# Altium integrated library Linear Technology Power Management Battery Management.IntLib: 626 symbols (part 46 of 56)
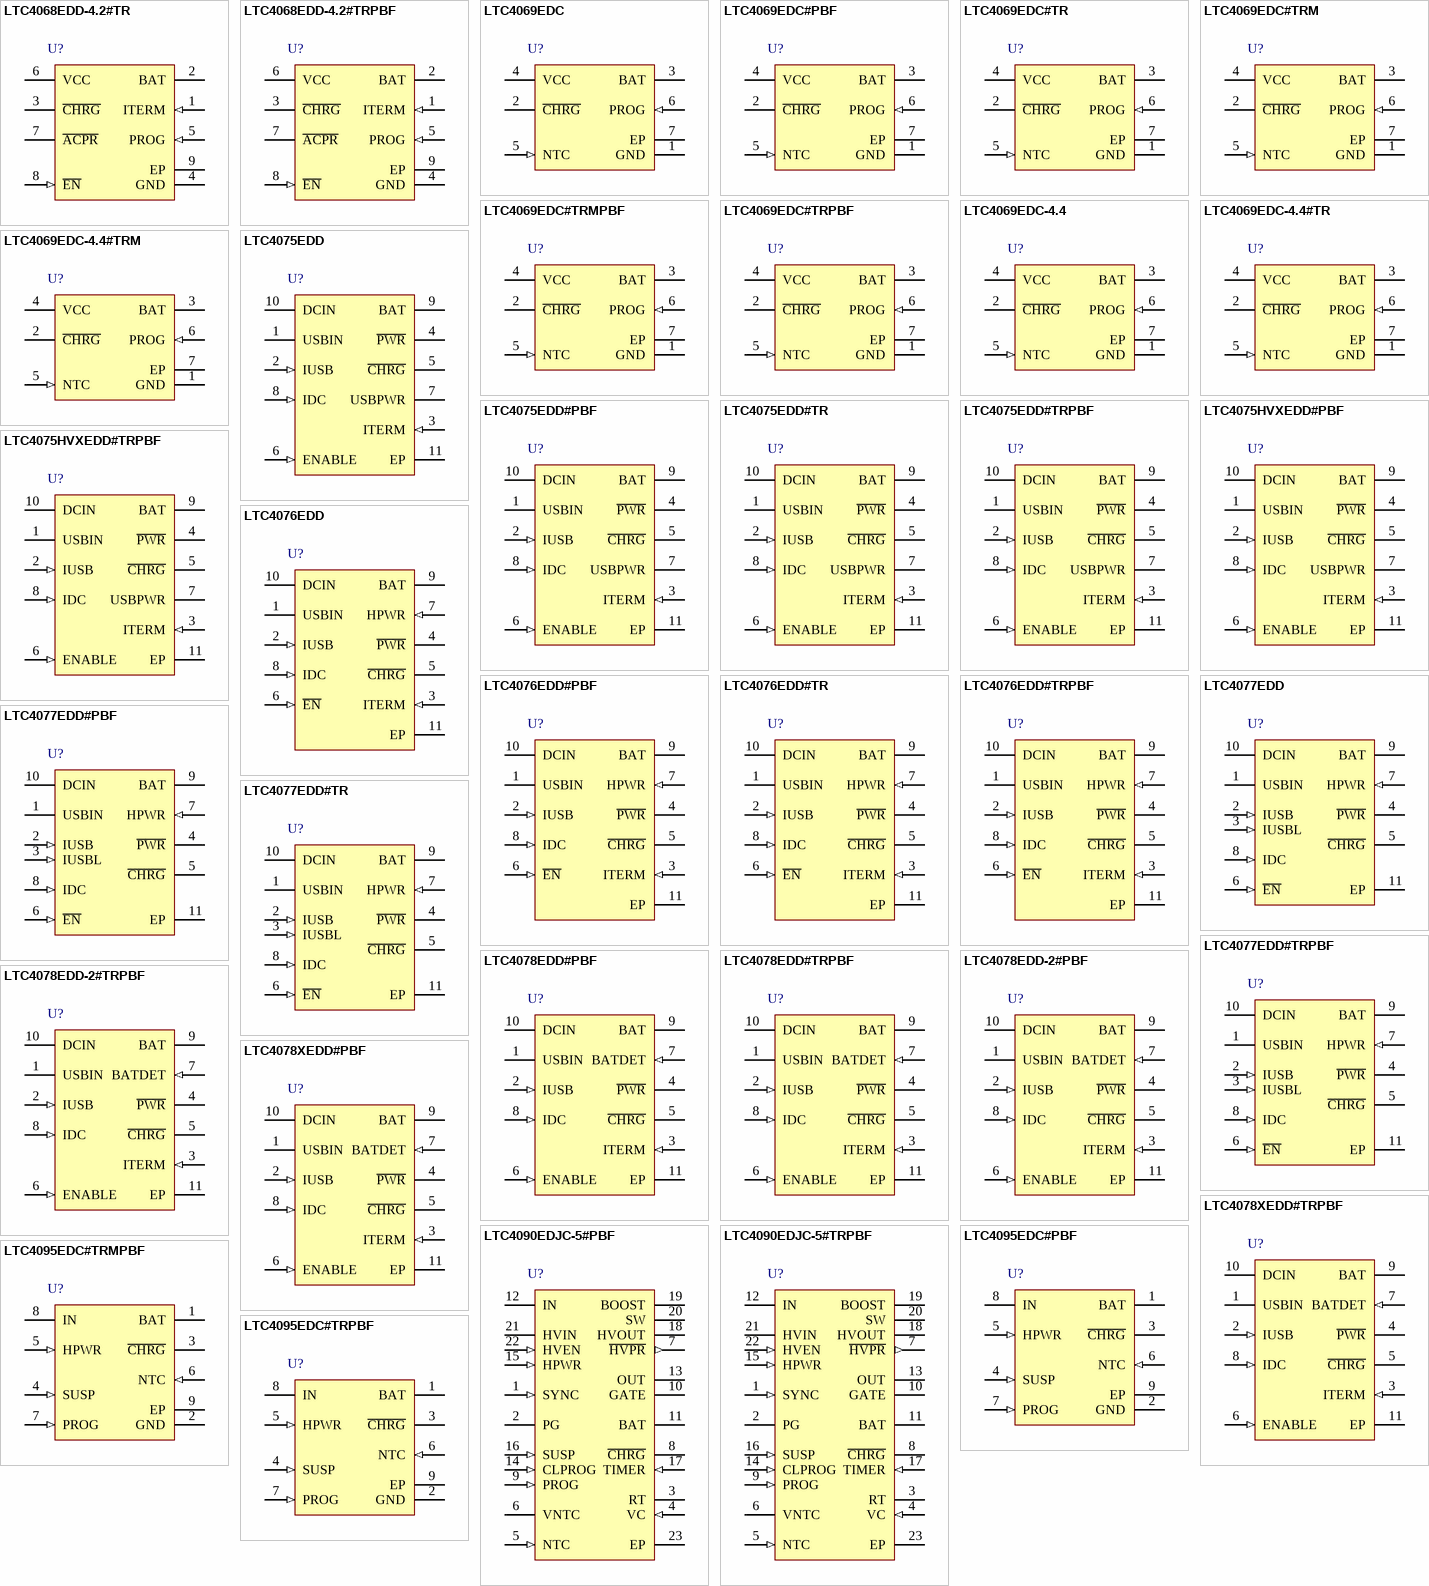
[diagram p67: symbols LTC4068EDD-4.2#TR to LTC4095EDC#TRPBF]

## LTC4076EDD#TRPBF
designator U?
Dual Input Standalone Battery Charger, 4.3 to 8 V Vin, 10-pin SON (DD-10), -40 to 85 degC, Pb-Free, Tape and Reel; Manufacturer: Linear Technology; PartNumber: LTC4076EDD#TRPBF; Battery Chemistry: Li-Ion, Li-Polymer; Charge Termination: C/X; Float Voltage: 4.2 V; Max Charge Current(A): 0.95; Number of Cells: 1; Type of Charger: Linear; Vin Max(V): 8; Vin Min(V): 4.3; DatasheetVersion: Rev. A; PackageVersion: Rev. C, 06/2010; PackageReference: DD-10; PackageDescription: 10-Pin Plastic DFN, Body 3 x 3 mm, Pitch 0.5 mm; Supplier 1: Digi-Key; Supplier Part Number 1: LTC4076EDD#TRPBF-ND; Packing: Tape and Reel; RoHS: TRUE; Mounting Technology: Surface Mount; Code_JEDEC: MO-229; ComponentLink1Description: Manufacturer URL; ComponentLink1URL: http://www.linear.com/; ComponentLink2Description: Datasheet; ComponentLink2URL: http://cds.linear.com/docs/en/datasheet/4076fa.pdf; ComponentLink3Description: Package Specification; ComponentLink3URL: http://cds.linear.com/docs/en/packaging/DFN_10_05-08-1699.pdf
footprint LT-DD-10_V (SON, 10-Leads, Body 3x3mm, Pitch 0.5mm, Thermal Pad 2.38x1.65mm)
pins: 1 USBIN (power) "USB Input Supply Pin. Provides power to the battery charger. The maximum supply current is 650mA. This pin should be bypassed with a 1uF capacitor.", 2 IUSB (in) "Charge Current Program for USB Power. The charge current is set by connecting a resistor, RIUSB, to ground. When charging in constant-current mode, this pin servos to 1V.", 3 ITERM (in) "Termination Current Threshold Program. The termination current threshold, ITERMINATE, is set by connecting a resistor, RITERM, to ground. ITERMINATE is set by the following formula: ITERMINATE = 100V/RITERM When the battery (See Datasheet)", 4 ~{PWR} (hiz) "Open-Drain Power Supply Status Output. When the DCIN or USBIN pin voltage is sufficient to begin charging (i.e. when the supply is greater than the undervoltage lockout threshold and at least 180mV above the battery (See Datasheet)", 5 ~{CHRG} (hiz) "Open-Drain Charge Status Output. When the LTC4076 is charging, the C\H\R\G\ pin is pulled low by an internal N-channel MOSFET. When the charge cycle is completed, C\H\R\G\ becomes high impedance. This output is capable of (See Datasheet)", 6 ~{EN} (in) "Charge Enable Input. A logic low on this pin enables the charger. If left floating, an internal 2Mohm pulldown resistor defaults the LTC4076 to charge mode . Pull this pin high for shutdown.", 7 HPWR (in) "HPWR Enable Input. Used to control the amount of current drawn from the USB port. A logic high on the HPWR pin sets the charge current to 100% of the current programmed by the IUSB pin. A logic low on the HPWR pin sets the (See Datasheet)", 8 IDC (in) "Charge Current Program for Wall Adapter Power. The charge current is set by connecting a resistor, RIDC, to ground. When charging in constant-current mode, this pin servos to 1V.", 9 BAT (power) "Charger Output. This pin provides charge current to the battery and regulates the final float voltage to 4.2V.", 10 DCIN (power) "Wall Adapter Input Supply Pin. Provides power to the battery charger. The maximum supply current is 950mA. This should be bypassed with a 1uF capacitor.", 11 EP (power) "GND. The exposed backside of the package is ground and must be soldered to PC board ground for electrical connection and maximum heat transfer."

## LTC4077EDD
designator U?
Dual Input Standalone Battery Charger, 4.3 to 8 V Vin, 10-pin SON (DD-10), -40 to 85 degC; Manufacturer: Linear Technology; PartNumber: LTC4077EDD; Battery Chemistry: Li-Ion, Li-Polymer; Charge Termination: C/10; Float Voltage: 4.2 V; Max Charge Current(A): 0.95; Number of Cells: 1; Type of Charger: Linear; Vin Max(V): 8; Vin Min(V): 4.3; DatasheetVersion: Rev. A; PackageVersion: Rev. C, 06/2010; PackageReference: DD-10; PackageDescription: 10-Pin Plastic DFN, Body 3 x 3 mm, Pitch 0.5 mm; Supplier 1: Digi-Key; Supplier Part Number 1: LTC4077EDD-ND; RoHS: FALSE; Mounting Technology: Surface Mount; Code_JEDEC: MO-229; ComponentLink1Description: Manufacturer URL; ComponentLink1URL: http://www.linear.com/; ComponentLink2Description: Datasheet; ComponentLink2URL: http://cds.linear.com/docs/en/datasheet/4077fa.pdf; ComponentLink3Description: Package Specification; ComponentLink3URL: http://cds.linear.com/docs/en/packaging/DFN_10_05-08-1699.pdf
footprint LT-DD-10_V (SON, 10-Leads, Body 3x3mm, Pitch 0.5mm, Thermal Pad 2.38x1.65mm)
pins: 1 USBIN (power) "USB Input Supply Pin. Provides power to the battery charger. The maximum supply current is 650mA. This pin should be bypassed with a 1uF capacitor.", 2 IUSB (in) "Charge Current Program for High USB Power. The charge current is set by connecting a resistor, RIUSB, to ground. When charging in constant-current mode, this pin servos to 1V.", 3 IUSBL (in) "Charge Current Program for Low USB Power. The charge current is set by connecting a resistor, RIUSBL, to ground. When charging in constant current mode, this pin servos to 0.2V.", 4 ~{PWR} (hiz) "Open-Drain Power Supply Status Output. When the DCIN or USBIN pin voltage is sufficient to begin charging (i.e. when the supply is greater than the undervoltage lockout threshold and at least 180mV above the battery (See Datasheet)", 5 ~{CHRG} (hiz) "Open-Drain Charge Status Output. When the LTC4077 is charging, the C\H\R\G\ pin is pulled low by an internal N-channel MOSFET. When the charge cycle is completed, C\H\R\G\ becomes high impedance. This output is capable of (See Datasheet)", 6 ~{EN} (in) "Charge Enable Input. A logic low on this pin enables the charger. If left floating, an internal 2Mohm pulldown resistor defaults the LTC4077 to charge mode . Pull this pin high for shutdown.", 7 HPWR (in) "HPWR Enable Input. Used to control the amount of current drawn from the USB port. A logic high on the HPWR pin sets the current limit at the current programmed by the IUSB pin. A logic low on the HPWR pin sets the current (See Datasheet)", 8 IDC (in) "Charge Current Program for Wall Adapter Power. The charge current is set by connecting a resistor, RIDC, to ground. When charging in constant-current mode, this pin servos to 1V.", 9 BAT (power) "Charger Output. This pin provides charge current to the battery and regulates the final float voltage to 4.2V.", 10 DCIN (power) "Wall Adapter Input Supply Pin. Provides power to the battery charger. The maximum supply current is 950mA. This should be bypassed with a 1uF capacitor.", 11 EP (power) "GND. The exposed backside of the package is ground and must be soldered to PC board ground for electrical connection and maximum heat transfer."

## LTC4077EDD#PBF
designator U?
Dual Input Standalone Battery Charger, 4.3 to 8 V Vin, 10-pin SON (DD-10), -40 to 85 degC, Pb-Free; Manufacturer: Linear Technology; PartNumber: LTC4077EDD#PBF; Battery Chemistry: Li-Ion, Li-Polymer; Charge Termination: C/10; Float Voltage: 4.2 V; Max Charge Current(A): 0.95; Number of Cells: 1; Type of Charger: Linear; Vin Max(V): 8; Vin Min(V): 4.3; DatasheetVersion: Rev. A; PackageVersion: Rev. C, 06/2010; PackageReference: DD-10; PackageDescription: 10-Pin Plastic DFN, Body 3 x 3 mm, Pitch 0.5 mm; Supplier 1: Digi-Key; Supplier Part Number 1: LTC4077EDD#PBF-ND; Supplier 2: Farnell; Supplier Part Number 2: 1556271; Supplier 3: Newark; Supplier Part Number 3: 58M0938; RoHS: TRUE; Mounting Technology: Surface Mount; Code_JEDEC: MO-229; ComponentLink1Description: Manufacturer URL; ComponentLink1URL: http://www.linear.com/; ComponentLink2Description: Datasheet; ComponentLink2URL: http://cds.linear.com/docs/en/datasheet/4077fa.pdf; ComponentLink3Description: Package Specification; ComponentLink3URL: http://cds.linear.com/docs/en/packaging/DFN_10_05-08-1699.pdf
footprint LT-DD-10_V (SON, 10-Leads, Body 3x3mm, Pitch 0.5mm, Thermal Pad 2.38x1.65mm)
pins: 1 USBIN (power) "USB Input Supply Pin. Provides power to the battery charger. The maximum supply current is 650mA. This pin should be bypassed with a 1uF capacitor.", 2 IUSB (in) "Charge Current Program for High USB Power. The charge current is set by connecting a resistor, RIUSB, to ground. When charging in constant-current mode, this pin servos to 1V.", 3 IUSBL (in) "Charge Current Program for Low USB Power. The charge current is set by connecting a resistor, RIUSBL, to ground. When charging in constant current mode, this pin servos to 0.2V.", 4 ~{PWR} (hiz) "Open-Drain Power Supply Status Output. When the DCIN or USBIN pin voltage is sufficient to begin charging (i.e. when the supply is greater than the undervoltage lockout threshold and at least 180mV above the battery (See Datasheet)", 5 ~{CHRG} (hiz) "Open-Drain Charge Status Output. When the LTC4077 is charging, the C\H\R\G\ pin is pulled low by an internal N-channel MOSFET. When the charge cycle is completed, C\H\R\G\ becomes high impedance. This output is capable of (See Datasheet)", 6 ~{EN} (in) "Charge Enable Input. A logic low on this pin enables the charger. If left floating, an internal 2Mohm pulldown resistor defaults the LTC4077 to charge mode . Pull this pin high for shutdown.", 7 HPWR (in) "HPWR Enable Input. Used to control the amount of current drawn from the USB port. A logic high on the HPWR pin sets the current limit at the current programmed by the IUSB pin. A logic low on the HPWR pin sets the current (See Datasheet)", 8 IDC (in) "Charge Current Program for Wall Adapter Power. The charge current is set by connecting a resistor, RIDC, to ground. When charging in constant-current mode, this pin servos to 1V.", 9 BAT (power) "Charger Output. This pin provides charge current to the battery and regulates the final float voltage to 4.2V.", 10 DCIN (power) "Wall Adapter Input Supply Pin. Provides power to the battery charger. The maximum supply current is 950mA. This should be bypassed with a 1uF capacitor.", 11 EP (power) "GND. The exposed backside of the package is ground and must be soldered to PC board ground for electrical connection and maximum heat transfer."

## LTC4077EDD#TR
designator U?
Dual Input Standalone Battery Charger, 4.3 to 8 V Vin, 10-pin SON (DD-10), -40 to 85 degC, Tape and Reel; Manufacturer: Linear Technology; PartNumber: LTC4077EDD#TR; Battery Chemistry: Li-Ion, Li-Polymer; Charge Termination: C/10; Float Voltage: 4.2 V; Max Charge Current(A): 0.95; Number of Cells: 1; Type of Charger: Linear; Vin Max(V): 8; Vin Min(V): 4.3; DatasheetVersion: Rev. A; PackageVersion: Rev. C, 06/2010; PackageReference: DD-10; PackageDescription: 10-Pin Plastic DFN, Body 3 x 3 mm, Pitch 0.5 mm; Supplier 1: Digi-Key; Supplier Part Number 1: LTC4077EDD#TR-ND; Packing: Tape and Reel; RoHS: FALSE; Mounting Technology: Surface Mount; Code_JEDEC: MO-229; ComponentLink1Description: Manufacturer URL; ComponentLink1URL: http://www.linear.com/; ComponentLink2Description: Datasheet; ComponentLink2URL: http://cds.linear.com/docs/en/datasheet/4077fa.pdf; ComponentLink3Description: Package Specification; ComponentLink3URL: http://cds.linear.com/docs/en/packaging/DFN_10_05-08-1699.pdf
footprint LT-DD-10_V (SON, 10-Leads, Body 3x3mm, Pitch 0.5mm, Thermal Pad 2.38x1.65mm)
pins: 1 USBIN (power) "USB Input Supply Pin. Provides power to the battery charger. The maximum supply current is 650mA. This pin should be bypassed with a 1uF capacitor.", 2 IUSB (in) "Charge Current Program for High USB Power. The charge current is set by connecting a resistor, RIUSB, to ground. When charging in constant-current mode, this pin servos to 1V.", 3 IUSBL (in) "Charge Current Program for Low USB Power. The charge current is set by connecting a resistor, RIUSBL, to ground. When charging in constant current mode, this pin servos to 0.2V.", 4 ~{PWR} (hiz) "Open-Drain Power Supply Status Output. When the DCIN or USBIN pin voltage is sufficient to begin charging (i.e. when the supply is greater than the undervoltage lockout threshold and at least 180mV above the battery (See Datasheet)", 5 ~{CHRG} (hiz) "Open-Drain Charge Status Output. When the LTC4077 is charging, the C\H\R\G\ pin is pulled low by an internal N-channel MOSFET. When the charge cycle is completed, C\H\R\G\ becomes high impedance. This output is capable of (See Datasheet)", 6 ~{EN} (in) "Charge Enable Input. A logic low on this pin enables the charger. If left floating, an internal 2Mohm pulldown resistor defaults the LTC4077 to charge mode . Pull this pin high for shutdown.", 7 HPWR (in) "HPWR Enable Input. Used to control the amount of current drawn from the USB port. A logic high on the HPWR pin sets the current limit at the current programmed by the IUSB pin. A logic low on the HPWR pin sets the current (See Datasheet)", 8 IDC (in) "Charge Current Program for Wall Adapter Power. The charge current is set by connecting a resistor, RIDC, to ground. When charging in constant-current mode, this pin servos to 1V.", 9 BAT (power) "Charger Output. This pin provides charge current to the battery and regulates the final float voltage to 4.2V.", 10 DCIN (power) "Wall Adapter Input Supply Pin. Provides power to the battery charger. The maximum supply current is 950mA. This should be bypassed with a 1uF capacitor.", 11 EP (power) "GND. The exposed backside of the package is ground and must be soldered to PC board ground for electrical connection and maximum heat transfer."

## LTC4077EDD#TRPBF
designator U?
Dual Input Standalone Battery Charger, 4.3 to 8 V Vin, 10-pin SON (DD-10), -40 to 85 degC, Pb-Free, Tape and Reel; Manufacturer: Linear Technology; PartNumber: LTC4077EDD#TRPBF; Battery Chemistry: Li-Ion, Li-Polymer; Charge Termination: C/10; Float Voltage: 4.2 V; Max Charge Current(A): 0.95; Number of Cells: 1; Type of Charger: Linear; Vin Max(V): 8; Vin Min(V): 4.3; DatasheetVersion: Rev. A; PackageVersion: Rev. C, 06/2010; PackageReference: DD-10; PackageDescription: 10-Pin Plastic DFN, Body 3 x 3 mm, Pitch 0.5 mm; Supplier 1: Digi-Key; Supplier Part Number 1: LTC4077EDD#TRPBF-ND; Packing: Tape and Reel; RoHS: TRUE; Mounting Technology: Surface Mount; Code_JEDEC: MO-229; ComponentLink1Description: Manufacturer URL; ComponentLink1URL: http://www.linear.com/; ComponentLink2Description: Datasheet; ComponentLink2URL: http://cds.linear.com/docs/en/datasheet/4077fa.pdf; ComponentLink3Description: Package Specification; ComponentLink3URL: http://cds.linear.com/docs/en/packaging/DFN_10_05-08-1699.pdf
footprint LT-DD-10_V (SON, 10-Leads, Body 3x3mm, Pitch 0.5mm, Thermal Pad 2.38x1.65mm)
pins: 1 USBIN (power) "USB Input Supply Pin. Provides power to the battery charger. The maximum supply current is 650mA. This pin should be bypassed with a 1uF capacitor.", 2 IUSB (in) "Charge Current Program for High USB Power. The charge current is set by connecting a resistor, RIUSB, to ground. When charging in constant-current mode, this pin servos to 1V.", 3 IUSBL (in) "Charge Current Program for Low USB Power. The charge current is set by connecting a resistor, RIUSBL, to ground. When charging in constant current mode, this pin servos to 0.2V.", 4 ~{PWR} (hiz) "Open-Drain Power Supply Status Output. When the DCIN or USBIN pin voltage is sufficient to begin charging (i.e. when the supply is greater than the undervoltage lockout threshold and at least 180mV above the battery (See Datasheet)", 5 ~{CHRG} (hiz) "Open-Drain Charge Status Output. When the LTC4077 is charging, the C\H\R\G\ pin is pulled low by an internal N-channel MOSFET. When the charge cycle is completed, C\H\R\G\ becomes high impedance. This output is capable of (See Datasheet)", 6 ~{EN} (in) "Charge Enable Input. A logic low on this pin enables the charger. If left floating, an internal 2Mohm pulldown resistor defaults the LTC4077 to charge mode . Pull this pin high for shutdown.", 7 HPWR (in) "HPWR Enable Input. Used to control the amount of current drawn from the USB port. A logic high on the HPWR pin sets the current limit at the current programmed by the IUSB pin. A logic low on the HPWR pin sets the current (See Datasheet)", 8 IDC (in) "Charge Current Program for Wall Adapter Power. The charge current is set by connecting a resistor, RIDC, to ground. When charging in constant-current mode, this pin servos to 1V.", 9 BAT (power) "Charger Output. This pin provides charge current to the battery and regulates the final float voltage to 4.2V.", 10 DCIN (power) "Wall Adapter Input Supply Pin. Provides power to the battery charger. The maximum supply current is 950mA. This should be bypassed with a 1uF capacitor.", 11 EP (power) "GND. The exposed backside of the package is ground and must be soldered to PC board ground for electrical connection and maximum heat transfer."

## LTC4078EDD#PBF
designator U?
Dual Input Li-Ion Battery Charger with Overvoltage Protection, 4.3 to 22 V Vin, 10-pin SON (DD-10), -40 to 85 degC, Pb-Free; Manufacturer: Linear Technology; PartNumber: LTC4078EDD#PBF; Battery Chemistry: Li-Ion, Li-Polymer; Charge Termination: C/x; Float Voltage: 4.2 V; Max Charge Current(A): 0.95; Number of Cells: 1; Type of Charger: Linear; Vin Max(V): 22; Vin Min(V): 4.3; DatasheetVersion: Rev. B; PackageVersion: Rev. C, 06/2010; PackageReference: DD-10; PackageDescription: 10-Pin Plastic DFN, Body 3 x 3 mm, Pitch 0.5 mm; Supplier 1: Digi-Key; Supplier Part Number 1: LTC4078EDD#PBF-ND; Supplier 2: Farnell; Supplier Part Number 2: 1648047; Supplier 3: Newark; Supplier Part Number 3: 75M4539; RoHS: TRUE; Mounting Technology: Surface Mount; Code_JEDEC: MO-229; ComponentLink1Description: Manufacturer URL; ComponentLink1URL: http://www.linear.com/; ComponentLink2Description: Datasheet; ComponentLink2URL: http://cds.linear.com/docs/en/datasheet/4078xfb.pdf; ComponentLink3Description: Package Specification; ComponentLink3URL: http://cds.linear.com/docs/en/packaging/DFN_10_05-08-1699.pdf
footprint LT-DD-10_V (SON, 10-Leads, Body 3x3mm, Pitch 0.5mm, Thermal Pad 2.38x1.65mm)
pins: 1 USBIN (power) "USB Input Supply Pin. This input provides power to the battery charger assuming a voltage greater than VUVUSB and less than VOVUSB is present (typically 3.95V to 6V respectively). However, the DCIN input will take priority (See Datasheet)", 2 IUSB (in) "Charge Current Program for USB Power. The charge current is set by connecting a resistor, RIUSB, to ground. When charging in constant-current mode, this pin servos to 1V. The voltage on this pin can be used to measure the (See Datasheet)", 3 ITERM (in) "Termination Current Threshold Program. The termination current threshold, ITERMINATE, is set by connecting a resistor, RITERM, to ground. ITERMINATE is set by the following formula: ITERMINATE = 100V/RITERM When the battery (See Datasheet)", 4 ~{PWR} (hiz) "Open-Drain Power Supply Status Output. When the DCIN or USBIN pin voltage is valid to begin charging (i.e. when the supply is greater than the undervoltage lockout threshold, less than the overvoltage lockout threshold and (See Datasheet)", 5 ~{CHRG} (hiz) "Open-Drain Charge Status Output. When the LTC4078/LTC4078X are charging, the C\H\R\G\ pin is pulled low by an internal N-channel MOSFET. When the charge cycle is completed, C\H\R\G\ becomes high impedance. This output is (See Datasheet)", 6 ENABLE (in) "Enable Input. When the LTC4078/LTC4078X are charging from the DCIN source, a logic low on this pin enables the charger. When the LTC4078/LTC4078X are charging from the USBIN source, a logic high on this pin enables the (See Datasheet)", 7 BATDET (in) "Battery Detection Input. When the voltage on this pin falls below VBDET (typically 1.75V), the charger is on and ready for charging a battery. If this input is left floating, an internal pull-up resistor will disable (See Datasheet)", 8 IDC (in) "Charge Current Program for Wall Adapter Power. The charge current is set by connecting a resistor, RIDC, to ground. When charging in constant-current mode, this pin servos to 1V. The voltage on this pin can be used to (See Datasheet)", 9 BAT (power) "Battery Charger Output. This pin provides charge current to the battery and regulates the final float voltage to 4.2V.", 10 DCIN (power) "Wall Adapter Input Supply Pin. This input provides power to the battery charger assuming a voltage greater than VUVDC and less than VOVDC is present (typically 4.15V to 6V respectively). A valid voltage on the DCIN input (See Datasheet)", 11 EP (power) "GND. The exposed backside of the package is ground and must be soldered to PC board ground for electrical connection and maximum heat transfer."

## LTC4078EDD#TRPBF
designator U?
Dual Input Li-Ion Battery Charger with Overvoltage Protection, 4.3 to 22 V Vin, 10-pin SON (DD-10), -40 to 85 degC, Pb-Free, Tape and Reel; Manufacturer: Linear Technology; PartNumber: LTC4078EDD#TRPBF; Battery Chemistry: Li-Ion, Li-Polymer; Charge Termination: C/x; Float Voltage: 4.2 V; Max Charge Current(A): 0.95; Number of Cells: 1; Type of Charger: Linear; Vin Max(V): 22; Vin Min(V): 4.3; DatasheetVersion: Rev. B; PackageVersion: Rev. C, 06/2010; PackageReference: DD-10; PackageDescription: 10-Pin Plastic DFN, Body 3 x 3 mm, Pitch 0.5 mm; Supplier 1: Digi-Key; Supplier Part Number 1: LTC4078EDD#TRPBF-ND; Packing: Tape and Reel; RoHS: TRUE; Mounting Technology: Surface Mount; Code_JEDEC: MO-229; ComponentLink1Description: Manufacturer URL; ComponentLink1URL: http://www.linear.com/; ComponentLink2Description: Datasheet; ComponentLink2URL: http://cds.linear.com/docs/en/datasheet/4078xfb.pdf; ComponentLink3Description: Package Specification; ComponentLink3URL: http://cds.linear.com/docs/en/packaging/DFN_10_05-08-1699.pdf
footprint LT-DD-10_V (SON, 10-Leads, Body 3x3mm, Pitch 0.5mm, Thermal Pad 2.38x1.65mm)
pins: 1 USBIN (power) "USB Input Supply Pin. This input provides power to the battery charger assuming a voltage greater than VUVUSB and less than VOVUSB is present (typically 3.95V to 6V respectively). However, the DCIN input will take priority (See Datasheet)", 2 IUSB (in) "Charge Current Program for USB Power. The charge current is set by connecting a resistor, RIUSB, to ground. When charging in constant-current mode, this pin servos to 1V. The voltage on this pin can be used to measure the (See Datasheet)", 3 ITERM (in) "Termination Current Threshold Program. The termination current threshold, ITERMINATE, is set by connecting a resistor, RITERM, to ground. ITERMINATE is set by the following formula: ITERMINATE = 100V/RITERM When the battery (See Datasheet)", 4 ~{PWR} (hiz) "Open-Drain Power Supply Status Output. When the DCIN or USBIN pin voltage is valid to begin charging (i.e. when the supply is greater than the undervoltage lockout threshold, less than the overvoltage lockout threshold and (See Datasheet)", 5 ~{CHRG} (hiz) "Open-Drain Charge Status Output. When the LTC4078/LTC4078X are charging, the C\H\R\G\ pin is pulled low by an internal N-channel MOSFET. When the charge cycle is completed, C\H\R\G\ becomes high impedance. This output is (See Datasheet)", 6 ENABLE (in) "Enable Input. When the LTC4078/LTC4078X are charging from the DCIN source, a logic low on this pin enables the charger. When the LTC4078/LTC4078X are charging from the USBIN source, a logic high on this pin enables the (See Datasheet)", 7 BATDET (in) "Battery Detection Input. When the voltage on this pin falls below VBDET (typically 1.75V), the charger is on and ready for charging a battery. If this input is left floating, an internal pull-up resistor will disable (See Datasheet)", 8 IDC (in) "Charge Current Program for Wall Adapter Power. The charge current is set by connecting a resistor, RIDC, to ground. When charging in constant-current mode, this pin servos to 1V. The voltage on this pin can be used to (See Datasheet)", 9 BAT (power) "Battery Charger Output. This pin provides charge current to the battery and regulates the final float voltage to 4.2V.", 10 DCIN (power) "Wall Adapter Input Supply Pin. This input provides power to the battery charger assuming a voltage greater than VUVDC and less than VOVDC is present (typically 4.15V to 6V respectively). A valid voltage on the DCIN input (See Datasheet)", 11 EP (power) "GND. The exposed backside of the package is ground and must be soldered to PC board ground for electrical connection and maximum heat transfer."

## LTC4078EDD-2#PBF
designator U?
Dual Input Li-Ion Battery Charger with Overvoltage Protection, 4.3 to 22 V Vin, 10-pin SON (DD-10), -40 to 85 degC, Pb-Free; Manufacturer: Linear Technology; PartNumber: LTC4078EDD-2#PBF; Battery Chemistry: Li-Ion, Li-Polymer; Charge Termination: C/x; Float Voltage: 4.2 V; Max Charge Current(A): 0.95; Number of Cells: 1; Type of Charger: Linear; Vin Max(V): 22; Vin Min(V): 4.3; DatasheetVersion: Rev. B; PackageVersion: Rev. C, 06/2010; PackageReference: DD-10; PackageDescription: 10-Pin Plastic DFN, Body 3 x 3 mm, Pitch 0.5 mm; Supplier 1: Digi-Key; Supplier Part Number 1: LTC4078EDD-2#PBF-ND; RoHS: TRUE; Mounting Technology: Surface Mount; Code_JEDEC: MO-229; ComponentLink1Description: Manufacturer URL; ComponentLink1URL: http://www.linear.com/; ComponentLink2Description: Datasheet; ComponentLink2URL: http://cds.linear.com/docs/en/datasheet/4078xfb.pdf; ComponentLink3Description: Package Specification; ComponentLink3URL: http://cds.linear.com/docs/en/packaging/DFN_10_05-08-1699.pdf
footprint LT-DD-10_V (SON, 10-Leads, Body 3x3mm, Pitch 0.5mm, Thermal Pad 2.38x1.65mm)
pins: 1 USBIN (power) "USB Input Supply Pin. This input provides power to the battery charger assuming a voltage greater than VUVUSB and less than VOVUSB is present (typically 3.95V to 6V respectively). However, the DCIN input will take priority (See Datasheet)", 2 IUSB (in) "Charge Current Program for USB Power. The charge current is set by connecting a resistor, RIUSB, to ground. When charging in constant-current mode, this pin servos to 1V. The voltage on this pin can be used to measure the (See Datasheet)", 3 ITERM (in) "Termination Current Threshold Program. The termination current threshold, ITERMINATE, is set by connecting a resistor, RITERM, to ground. ITERMINATE is set by the following formula: ITERMINATE = 100V/RITERM When the battery (See Datasheet)", 4 ~{PWR} (hiz) "Open-Drain Power Supply Status Output. When the DCIN or USBIN pin voltage is valid to begin charging (i.e. when the supply is greater than the undervoltage lockout threshold, less than the overvoltage lockout threshold and (See Datasheet)", 5 ~{CHRG} (hiz) "Open-Drain Charge Status Output. When the LTC4078/LTC4078X are charging, the C\H\R\G\ pin is pulled low by an internal N-channel MOSFET. When the charge cycle is completed, C\H\R\G\ becomes high impedance. This output is (See Datasheet)", 6 ENABLE (in) "Enable Input. When the LTC4078/LTC4078X are charging from the DCIN source, a logic low on this pin enables the charger. When the LTC4078/LTC4078X are charging from the USBIN source, a logic high on this pin enables the (See Datasheet)", 7 BATDET (in) "Battery Detection Input. When the voltage on this pin falls below VBDET (typically 1.75V), the charger is on and ready for charging a battery. If this input is left floating, an internal pull-up resistor will disable (See Datasheet)", 8 IDC (in) "Charge Current Program for Wall Adapter Power. The charge current is set by connecting a resistor, RIDC, to ground. When charging in constant-current mode, this pin servos to 1V. The voltage on this pin can be used to (See Datasheet)", 9 BAT (power) "Battery Charger Output. This pin provides charge current to the battery and regulates the final float voltage to 4.2V.", 10 DCIN (power) "Wall Adapter Input Supply Pin. This input provides power to the battery charger assuming a voltage greater than VUVDC and less than VOVDC is present (typically 4.15V to 6V respectively). A valid voltage on the DCIN input (See Datasheet)", 11 EP (power) "GND. The exposed backside of the package is ground and must be soldered to PC board ground for electrical connection and maximum heat transfer."

## LTC4078EDD-2#TRPBF
designator U?
Dual Input Li-Ion Battery Charger with Overvoltage Protection, 4.3 to 22 V Vin, 10-pin SON (DD-10), -40 to 85 degC, Pb-Free, Tape and Reel; Manufacturer: Linear Technology; PartNumber: LTC4078EDD-2#TRPBF; Battery Chemistry: Li-Ion, Li-Polymer; Charge Termination: C/x; Float Voltage: 4.2 V; Max Charge Current(A): 0.95; Number of Cells: 1; Type of Charger: Linear; Vin Max(V): 22; Vin Min(V): 4.3; DatasheetVersion: Rev. B; PackageVersion: Rev. C, 06/2010; PackageReference: DD-10; PackageDescription: 10-Pin Plastic DFN, Body 3 x 3 mm, Pitch 0.5 mm; Supplier 1: Digi-Key; Supplier Part Number 1: LTC4078EDD-2#TRPBF-ND; Packing: Tape and Reel; RoHS: TRUE; Mounting Technology: Surface Mount; Code_JEDEC: MO-229; ComponentLink1Description: Manufacturer URL; ComponentLink1URL: http://www.linear.com/; ComponentLink2Description: Datasheet; ComponentLink2URL: http://cds.linear.com/docs/en/datasheet/4078xfb.pdf; ComponentLink3Description: Package Specification; ComponentLink3URL: http://cds.linear.com/docs/en/packaging/DFN_10_05-08-1699.pdf
footprint LT-DD-10_V (SON, 10-Leads, Body 3x3mm, Pitch 0.5mm, Thermal Pad 2.38x1.65mm)
pins: 1 USBIN (power) "USB Input Supply Pin. This input provides power to the battery charger assuming a voltage greater than VUVUSB and less than VOVUSB is present (typically 3.95V to 6V respectively). However, the DCIN input will take priority (See Datasheet)", 2 IUSB (in) "Charge Current Program for USB Power. The charge current is set by connecting a resistor, RIUSB, to ground. When charging in constant-current mode, this pin servos to 1V. The voltage on this pin can be used to measure the (See Datasheet)", 3 ITERM (in) "Termination Current Threshold Program. The termination current threshold, ITERMINATE, is set by connecting a resistor, RITERM, to ground. ITERMINATE is set by the following formula: ITERMINATE = 100V/RITERM When the battery (See Datasheet)", 4 ~{PWR} (hiz) "Open-Drain Power Supply Status Output. When the DCIN or USBIN pin voltage is valid to begin charging (i.e. when the supply is greater than the undervoltage lockout threshold, less than the overvoltage lockout threshold and (See Datasheet)", 5 ~{CHRG} (hiz) "Open-Drain Charge Status Output. When the LTC4078/LTC4078X are charging, the C\H\R\G\ pin is pulled low by an internal N-channel MOSFET. When the charge cycle is completed, C\H\R\G\ becomes high impedance. This output is (See Datasheet)", 6 ENABLE (in) "Enable Input. When the LTC4078/LTC4078X are charging from the DCIN source, a logic low on this pin enables the charger. When the LTC4078/LTC4078X are charging from the USBIN source, a logic high on this pin enables the (See Datasheet)", 7 BATDET (in) "Battery Detection Input. When the voltage on this pin falls below VBDET (typically 1.75V), the charger is on and ready for charging a battery. If this input is left floating, an internal pull-up resistor will disable (See Datasheet)", 8 IDC (in) "Charge Current Program for Wall Adapter Power. The charge current is set by connecting a resistor, RIDC, to ground. When charging in constant-current mode, this pin servos to 1V. The voltage on this pin can be used to (See Datasheet)", 9 BAT (power) "Battery Charger Output. This pin provides charge current to the battery and regulates the final float voltage to 4.2V.", 10 DCIN (power) "Wall Adapter Input Supply Pin. This input provides power to the battery charger assuming a voltage greater than VUVDC and less than VOVDC is present (typically 4.15V to 6V respectively). A valid voltage on the DCIN input (See Datasheet)", 11 EP (power) "GND. The exposed backside of the package is ground and must be soldered to PC board ground for electrical connection and maximum heat transfer."

## LTC4078XEDD#PBF
designator U?
Dual Input Li-Ion Battery Charger with Overvoltage Protection, 4.3 to 22 V Vin, 10-pin SON (DD-10), -40 to 85 degC, Pb-Free; Manufacturer: Linear Technology; PartNumber: LTC4078XEDD#PBF; Battery Chemistry: Li-Ion, Li-Polymer; Charge Termination: C/x; Float Voltage: 4.2 V; Max Charge Current(A): 0.95; Number of Cells: 1; Type of Charger: Linear; Vin Max(V): 22; Vin Min(V): 4.3; DatasheetVersion: Rev. B; PackageVersion: Rev. C, 06/2010; PackageReference: DD-10; PackageDescription: 10-Pin Plastic DFN, Body 3 x 3 mm, Pitch 0.5 mm; Supplier 1: Digi-Key; Supplier Part Number 1: LTC4078XEDD#PBF-ND; RoHS: TRUE; Mounting Technology: Surface Mount; Code_JEDEC: MO-229; ComponentLink1Description: Manufacturer URL; ComponentLink1URL: http://www.linear.com/; ComponentLink2Description: Datasheet; ComponentLink2URL: http://cds.linear.com/docs/en/datasheet/4078xfb.pdf; ComponentLink3Description: Package Specification; ComponentLink3URL: http://cds.linear.com/docs/en/packaging/DFN_10_05-08-1699.pdf
footprint LT-DD-10_V (SON, 10-Leads, Body 3x3mm, Pitch 0.5mm, Thermal Pad 2.38x1.65mm)
pins: 1 USBIN (power) "USB Input Supply Pin. This input provides power to the battery charger assuming a voltage greater than VUVUSB and less than VOVUSB is present (typically 3.95V to 6V respectively). However, the DCIN input will take priority (See Datasheet)", 2 IUSB (in) "Charge Current Program for USB Power. The charge current is set by connecting a resistor, RIUSB, to ground. When charging in constant-current mode, this pin servos to 1V. The voltage on this pin can be used to measure the (See Datasheet)", 3 ITERM (in) "Termination Current Threshold Program. The termination current threshold, ITERMINATE, is set by connecting a resistor, RITERM, to ground. ITERMINATE is set by the following formula: ITERMINATE = 100V/RITERM When the battery (See Datasheet)", 4 ~{PWR} (hiz) "Open-Drain Power Supply Status Output. When the DCIN or USBIN pin voltage is valid to begin charging (i.e. when the supply is greater than the undervoltage lockout threshold, less than the overvoltage lockout threshold and (See Datasheet)", 5 ~{CHRG} (hiz) "Open-Drain Charge Status Output. When the LTC4078/LTC4078X are charging, the C\H\R\G\ pin is pulled low by an internal N-channel MOSFET. When the charge cycle is completed, C\H\R\G\ becomes high impedance. This output is (See Datasheet)", 6 ENABLE (in) "Enable Input. When the LTC4078/LTC4078X are charging from the DCIN source, a logic low on this pin enables the charger. When the LTC4078/LTC4078X are charging from the USBIN source, a logic high on this pin enables the (See Datasheet)", 7 BATDET (in) "Battery Detection Input. When the voltage on this pin falls below VBDET (typically 1.75V), the charger is on and ready for charging a battery. If this input is left floating, an internal pull-up resistor will disable (See Datasheet)", 8 IDC (in) "Charge Current Program for Wall Adapter Power. The charge current is set by connecting a resistor, RIDC, to ground. When charging in constant-current mode, this pin servos to 1V. The voltage on this pin can be used to (See Datasheet)", 9 BAT (power) "Battery Charger Output. This pin provides charge current to the battery and regulates the final float voltage to 4.2V.", 10 DCIN (power) "Wall Adapter Input Supply Pin. This input provides power to the battery charger assuming a voltage greater than VUVDC and less than VOVDC is present (typically 4.15V to 6V respectively). A valid voltage on the DCIN input (See Datasheet)", 11 EP (power) "GND. The exposed backside of the package is ground and must be soldered to PC board ground for electrical connection and maximum heat transfer."

## LTC4078XEDD#TRPBF
designator U?
Dual Input Li-Ion Battery Charger with Overvoltage Protection, 4.3 to 22 V Vin, 10-pin SON (DD-10), -40 to 85 degC, Pb-Free, Tape and Reel; Manufacturer: Linear Technology; PartNumber: LTC4078XEDD#TRPBF; Battery Chemistry: Li-Ion, Li-Polymer; Charge Termination: C/x; Float Voltage: 4.2 V; Max Charge Current(A): 0.95; Number of Cells: 1; Type of Charger: Linear; Vin Max(V): 22; Vin Min(V): 4.3; DatasheetVersion: Rev. B; PackageVersion: Rev. C, 06/2010; PackageReference: DD-10; PackageDescription: 10-Pin Plastic DFN, Body 3 x 3 mm, Pitch 0.5 mm; Supplier 1: Digi-Key; Supplier Part Number 1: LTC4078XEDD#TRPBF-ND; Packing: Tape and Reel; RoHS: TRUE; Mounting Technology: Surface Mount; Code_JEDEC: MO-229; ComponentLink1Description: Manufacturer URL; ComponentLink1URL: http://www.linear.com/; ComponentLink2Description: Datasheet; ComponentLink2URL: http://cds.linear.com/docs/en/datasheet/4078xfb.pdf; ComponentLink3Description: Package Specification; ComponentLink3URL: http://cds.linear.com/docs/en/packaging/DFN_10_05-08-1699.pdf
footprint LT-DD-10_V (SON, 10-Leads, Body 3x3mm, Pitch 0.5mm, Thermal Pad 2.38x1.65mm)
pins: 1 USBIN (power) "USB Input Supply Pin. This input provides power to the battery charger assuming a voltage greater than VUVUSB and less than VOVUSB is present (typically 3.95V to 6V respectively). However, the DCIN input will take priority (See Datasheet)", 2 IUSB (in) "Charge Current Program for USB Power. The charge current is set by connecting a resistor, RIUSB, to ground. When charging in constant-current mode, this pin servos to 1V. The voltage on this pin can be used to measure the (See Datasheet)", 3 ITERM (in) "Termination Current Threshold Program. The termination current threshold, ITERMINATE, is set by connecting a resistor, RITERM, to ground. ITERMINATE is set by the following formula: ITERMINATE = 100V/RITERM When the battery (See Datasheet)", 4 ~{PWR} (hiz) "Open-Drain Power Supply Status Output. When the DCIN or USBIN pin voltage is valid to begin charging (i.e. when the supply is greater than the undervoltage lockout threshold, less than the overvoltage lockout threshold and (See Datasheet)", 5 ~{CHRG} (hiz) "Open-Drain Charge Status Output. When the LTC4078/LTC4078X are charging, the C\H\R\G\ pin is pulled low by an internal N-channel MOSFET. When the charge cycle is completed, C\H\R\G\ becomes high impedance. This output is (See Datasheet)", 6 ENABLE (in) "Enable Input. When the LTC4078/LTC4078X are charging from the DCIN source, a logic low on this pin enables the charger. When the LTC4078/LTC4078X are charging from the USBIN source, a logic high on this pin enables the (See Datasheet)", 7 BATDET (in) "Battery Detection Input. When the voltage on this pin falls below VBDET (typically 1.75V), the charger is on and ready for charging a battery. If this input is left floating, an internal pull-up resistor will disable (See Datasheet)", 8 IDC (in) "Charge Current Program for Wall Adapter Power. The charge current is set by connecting a resistor, RIDC, to ground. When charging in constant-current mode, this pin servos to 1V. The voltage on this pin can be used to (See Datasheet)", 9 BAT (power) "Battery Charger Output. This pin provides charge current to the battery and regulates the final float voltage to 4.2V.", 10 DCIN (power) "Wall Adapter Input Supply Pin. This input provides power to the battery charger assuming a voltage greater than VUVDC and less than VOVDC is present (typically 4.15V to 6V respectively). A valid voltage on the DCIN input (See Datasheet)", 11 EP (power) "GND. The exposed backside of the package is ground and must be soldered to PC board ground for electrical connection and maximum heat transfer."

## LTC4090EDJC-5#PBF
designator U?
USB Power Manager with 2 A High Voltage Bat-Track Buck Regulator, 6 to 60 V Vin, 22-pin SON (DJC-22), -40 to 85 degC, Pb-Free; Manufacturer: Linear Technology; PartNumber: LTC4090EDJC-5#PBF; Battery Chemistry: Li-Ion, Li-Polymer; Charge Termination: Timer + C/x; Float Voltage: 4.2 V; Max Charge Current(A): 1.5; Number of Cells: 1; Type of Charger: Linear; Vin Max(V): 60; Vin Min(V): 6; DatasheetVersion: Rev. C; PackageVersion: Jun-10; PackageReference: DJC22; PackageDescription: 22-Pin Plastic DFN, Body 6 x 3 mm, Pitch 0.5 mm; Supplier 1: Digi-Key; Supplier Part Number 1: LTC4090EDJC-5#PBF-ND; Supplier 2: Newark; Supplier Part Number 2: 75M4543; RoHS: TRUE; Mounting Technology: Surface Mount; Code_JEDEC: MO-229; ComponentLink1Description: Manufacturer URL; ComponentLink1URL: http://www.linear.com/; ComponentLink2Description: Datasheet; ComponentLink2URL: http://cds.linear.com/docs/en/datasheet/4090fc.pdf; ComponentLink3Description: Package Specification; ComponentLink3URL: http://www.linear.com/docs/en/packaging/DFN_22_05-08-1714.pdf
footprint LT-DJC-22_V (SON, 22-Leads, Body 6x3mm, Pitch 0.5mm, Thermal Pad 5.35x1.65mm)
pins: 1 SYNC (in) "External Clock Synchronization Input. See synchronizing section in the Applications Information section. Ground pin when not used.", 2 PG (oc) "Open Collector Output of an Internal Comparator. PG remains low until the HVOUT pin is above 2.8 V. PG output is valid when HVIN is above 3.6 V and HVEN is high.", 3 RT "Oscillator Resistor Input. Connecting a resistor to ground from this pin sets the switching frequency.", 4 VC (in) "High Voltage Buck Regulator Control Pin. The voltage on this pin controls the peak switch current in the high voltage regulator. Tie an RC network from this pin to ground to compensate the control loop.", 5 NTC (in) "Input to the NTC Thermistor Monitoring Circuits. The NTC pin connects to a negative temperature coefficient thermistor which is typically co-packaged with the battery pack to determine if the battery is too hot or too cold (See Datasheet)", 6 VNTC "Output Bias Voltage for NTC. A resistor from this pin to the NTC pin will bias the NTC thermistor.", 7 ~{HVPR} (out) "High Voltage Present Output (Active Low). A low on this pin indicates that the high voltage regulator has sufficient voltage to charge the battery. This feature is enabled if power is present on HVIN, IN, or BAT (i.e., above (See Datasheet)", 8 ~{CHRG} (hiz) "Open-Drain Charge Status Output. When the battery is being charged, the C\H\R\G\ pin is pulled low by an internal N-channel MOSFET. When the timer runs out or the charge current drops below 10% of the programmed charge (See Datasheet)", 9 PROG (in) "Charge Current Program Pin. Connecting a resistor from PROG to ground programs the charge current.", 10 GATE (hiz) "External Ideal Diode Gate Connection. This pin controls the gate of an optional external P-channel MOSFET transistor used to supplement the internal ideal diode. The source of the P-channel MOSFET should be connected to OUT (See Datasheet)", 11 BAT (power) "Single-Cell Li-Ion Battery. This pin is used as an output when charging the battery and as an input when supplying power to OUT. When the OUT pin potential drops below the BAT pin potential, an ideal diode function connects (See Datasheet)", 12 IN (power) "Input Supply. Connect to USB supply, VBUS . Input current to this pin is limited to either 20% or 100% of the current programmed by the CLPROG pin as deter- mined by the state of the HPWR pin. Charge current (to the BAT pin) (See Datasheet)", 13 OUT (power) "Voltage Output. This pin is used to provide controlled power to a USB device from either USB VBUS (IN), an external high voltage supply (HVIN), or the battery (BAT) when no other supply is present. The high voltage supply is (See Datasheet)", 14 CLPROG (in) "Current Limit Program and Input Current Monitor. Connecting a resistor, RCLPROG, to ground programs the input to output current limit.", 15 HPWR (in) "High Power Select. This logic input is used to control the input current limit. A voltage greater than 1.2V on the pin will set the input current limit to 100% of the current programmed by the CLPROG pin. A voltage less than (See Datasheet)", 16 SUSP (in) "Suspend Mode Input. Pulling this pin above 1.2 V will disable the power path from IN to OUT. The supply current from IN will be reduced to comply with the USB specification for suspend mode. Both the ability to charge the (See Datasheet)", 17 TIMER (in) "Timer Capacitor. Placing a capacitor, CTIMER , to GND sets the timer period.", 18 HVOUT (power) "Voltage Output of the High Voltage Regulator.", 19 BOOST "This pin is used to provide drive voltage, higher than the input voltage, to the internal bipolar NPN power switch.", 20 SW (power) "The SW pin is the output of the internal high voltage power switch. Connect this pin to the inductor, catch diode and boost capacitor.", 21 HVIN (power) "High Voltage Regulator Input.", 22 HVEN (in) "High Voltage Regulator Enable Input. The HVEN pin is used to disable the high voltage input path. Tie to ground to disable the high voltage input or tie to at least 2.3 V to enable the high voltage path. If this feature is (See Datasheet)", 23 EP (power) "Ground. The exposed package pad is ground and must be soldered to the PC board for proper functionality and for maximum heat transfer (use several vias directly under the LTC4090/LTC4090-5)."

## LTC4090EDJC-5#TRPBF
designator U?
USB Power Manager with 2 A High Voltage Bat-Track Buck Regulator, 6 to 60 V Vin, 22-pin SON (DJC-22), -40 to 85 degC, Pb-Free, Tape and Reel; Manufacturer: Linear Technology; PartNumber: LTC4090EDJC-5#TRPBF; Battery Chemistry: Li-Ion, Li-Polymer; Charge Termination: Timer + C/x; Float Voltage: 4.2 V; Max Charge Current(A): 1.5; Number of Cells: 1; Type of Charger: Linear; Vin Max(V): 60; Vin Min(V): 6; DatasheetVersion: Rev. C; PackageVersion: Jun-10; PackageReference: DJC22; PackageDescription: 22-Pin Plastic DFN, Body 6 x 3 mm, Pitch 0.5 mm; Supplier 1: Digi-Key; Supplier Part Number 1: LTC4090EDJC-5#TRPBF-ND; Packing: Tape and Reel; RoHS: TRUE; Mounting Technology: Surface Mount; Code_JEDEC: MO-229; ComponentLink1Description: Manufacturer URL; ComponentLink1URL: http://www.linear.com/; ComponentLink2Description: Datasheet; ComponentLink2URL: http://cds.linear.com/docs/en/datasheet/4090fc.pdf; ComponentLink3Description: Package Specification; ComponentLink3URL: http://www.linear.com/docs/en/packaging/DFN_22_05-08-1714.pdf
footprint LT-DJC-22_V (SON, 22-Leads, Body 6x3mm, Pitch 0.5mm, Thermal Pad 5.35x1.65mm)
pins: 1 SYNC (in) "External Clock Synchronization Input. See synchronizing section in the Applications Information section. Ground pin when not used.", 2 PG (oc) "Open Collector Output of an Internal Comparator. PG remains low until the HVOUT pin is above 2.8 V. PG output is valid when HVIN is above 3.6 V and HVEN is high.", 3 RT "Oscillator Resistor Input. Connecting a resistor to ground from this pin sets the switching frequency.", 4 VC (in) "High Voltage Buck Regulator Control Pin. The voltage on this pin controls the peak switch current in the high voltage regulator. Tie an RC network from this pin to ground to compensate the control loop.", 5 NTC (in) "Input to the NTC Thermistor Monitoring Circuits. The NTC pin connects to a negative temperature coefficient thermistor which is typically co-packaged with the battery pack to determine if the battery is too hot or too cold (See Datasheet)", 6 VNTC "Output Bias Voltage for NTC. A resistor from this pin to the NTC pin will bias the NTC thermistor.", 7 ~{HVPR} (out) "High Voltage Present Output (Active Low). A low on this pin indicates that the high voltage regulator has sufficient voltage to charge the battery. This feature is enabled if power is present on HVIN, IN, or BAT (i.e., above (See Datasheet)", 8 ~{CHRG} (hiz) "Open-Drain Charge Status Output. When the battery is being charged, the C\H\R\G\ pin is pulled low by an internal N-channel MOSFET. When the timer runs out or the charge current drops below 10% of the programmed charge (See Datasheet)", 9 PROG (in) "Charge Current Program Pin. Connecting a resistor from PROG to ground programs the charge current.", 10 GATE (hiz) "External Ideal Diode Gate Connection. This pin controls the gate of an optional external P-channel MOSFET transistor used to supplement the internal ideal diode. The source of the P-channel MOSFET should be connected to OUT (See Datasheet)", 11 BAT (power) "Single-Cell Li-Ion Battery. This pin is used as an output when charging the battery and as an input when supplying power to OUT. When the OUT pin potential drops below the BAT pin potential, an ideal diode function connects (See Datasheet)", 12 IN (power) "Input Supply. Connect to USB supply, VBUS . Input current to this pin is limited to either 20% or 100% of the current programmed by the CLPROG pin as deter- mined by the state of the HPWR pin. Charge current (to the BAT pin) (See Datasheet)", 13 OUT (power) "Voltage Output. This pin is used to provide controlled power to a USB device from either USB VBUS (IN), an external high voltage supply (HVIN), or the battery (BAT) when no other supply is present. The high voltage supply is (See Datasheet)", 14 CLPROG (in) "Current Limit Program and Input Current Monitor. Connecting a resistor, RCLPROG, to ground programs the input to output current limit.", 15 HPWR (in) "High Power Select. This logic input is used to control the input current limit. A voltage greater than 1.2V on the pin will set the input current limit to 100% of the current programmed by the CLPROG pin. A voltage less than (See Datasheet)", 16 SUSP (in) "Suspend Mode Input. Pulling this pin above 1.2 V will disable the power path from IN to OUT. The supply current from IN will be reduced to comply with the USB specification for suspend mode. Both the ability to charge the (See Datasheet)", 17 TIMER (in) "Timer Capacitor. Placing a capacitor, CTIMER , to GND sets the timer period.", 18 HVOUT (power) "Voltage Output of the High Voltage Regulator.", 19 BOOST "This pin is used to provide drive voltage, higher than the input voltage, to the internal bipolar NPN power switch.", 20 SW (power) "The SW pin is the output of the internal high voltage power switch. Connect this pin to the inductor, catch diode and boost capacitor.", 21 HVIN (power) "High Voltage Regulator Input.", 22 HVEN (in) "High Voltage Regulator Enable Input. The HVEN pin is used to disable the high voltage input path. Tie to ground to disable the high voltage input or tie to at least 2.3 V to enable the high voltage path. If this feature is (See Datasheet)", 23 EP (power) "Ground. The exposed package pad is ground and must be soldered to the PC board for proper functionality and for maximum heat transfer (use several vias directly under the LTC4090/LTC4090-5)."